# Altium footprint library CTHFW2918F-100M.PcbLib: 1 footprints
Each footprint in its own frame and in the unit in brackets; x right, y up, seen from the top. Pads: shape width x height; smd on the part's side, far side on the other; paste and mask are expansions set on the pad; w line width, h text height; cw(c..) or ccw(c..) is an arc to the next point about the centre after c.
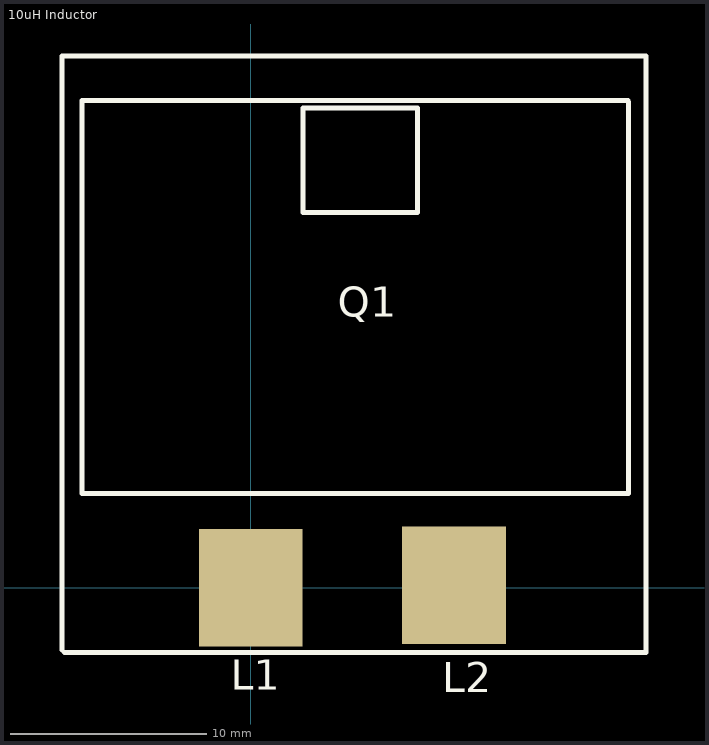
[diagram p0: the footprint, top view; thin cyan lines are the x and y axes]

## 10uH Inductor [mm]
pads (2):
  rect 5.3x6 smd: ""(0,0) ""(10.381,0.127)
Top Overlay:
  lines w0.254: -9.652,-3.175 -9.652,27.178 20.193,27.178 20.193,-3.302 -9.525,-3.302 ; -8.636,24.826 -8.636,4.826 19.264,4.826 ; -8.636,24.892 -1.661,24.892 ; 19.264,24.892 12.289,24.892 -1.661,24.892 ; 19.304,4.826 19.304,24.826 ; -1.661,24.892 -1.661,24.892 ; 2.667,19.177 8.509,19.177 8.509,24.511 2.667,24.511 2.667,19.177
  text "Q1" at 4.445,13.843 h1.52
  text "L1" at -1.016,-5.207 h1.52
  text "L2" at 9.779,-5.334 h1.52